# EAGLE library part ADAFRUIT_BNO055 (library adafruit_BNO055)
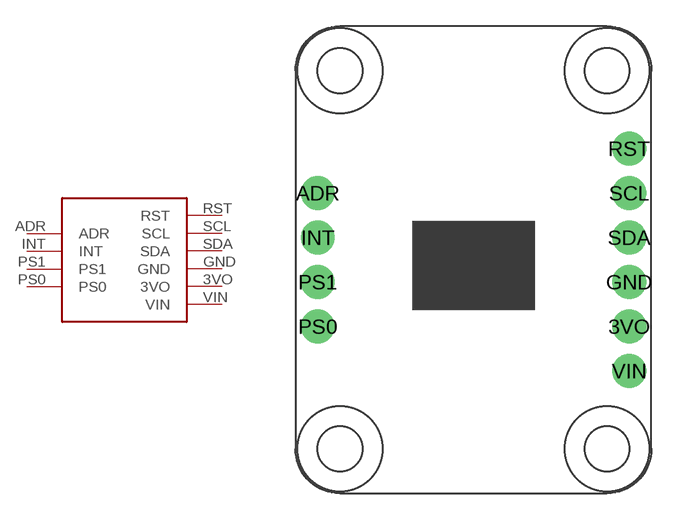
[diagram p0: symbol with the pads of ADAFRUIT_BNO055; footprint ADAFRUIT_BNO055]

Designator prefix -

## ADAFRUIT_BNO055  [ADAFRUIT_BNO055]
3VO  3VO
ADR  ADR
GND  GND
INT  INT
PS0  PS0
PS1  PS1
RST  RST
SCL  SCL
SDA  SDA
VIN  VIN

## Footprint ADAFRUIT_BNO055 (pad centres in mm)
drill 1.016 pad 1.93: 3VO 19.05,9.525; ADR 1.27,17.145; GND 19.05,12.065; INT 1.27,14.605; PS0 1.27,9.525; PS1 1.27,12.065; RST 19.05,19.685; SCL 19.05,17.145; SDA 19.05,14.605; VIN 19.05,6.985